# Altium footprint library ONSemi.PcbLib: 4 footprints
Each footprint in its own frame and in the unit in brackets; x right, y up, seen from the top. Pads: shape width x height; smd on the part's side, far side on the other; paste and mask are expansions set on the pad; w line width, h text height; cw(c..) or ccw(c..) is an arc to the next point about the centre after c.
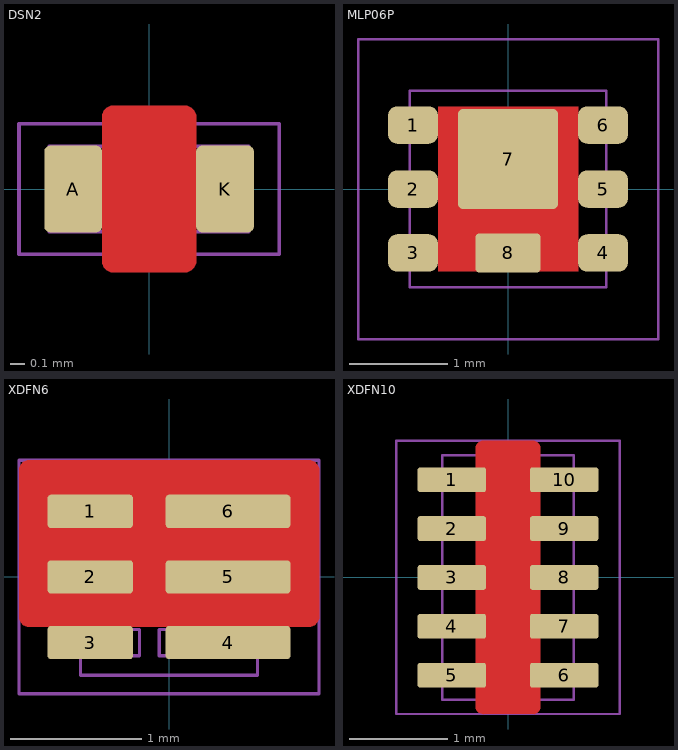
[diagram p0: the footprints below, top view; thin cyan lines are the x and y axes]

## DSN2 [mil]
height 19.68
pads (2):
  rrect20% 16x24 smd mask+2: A(-21,0) K(21,0)
Top Layer:
  pour cut-out: 13,20 13,20.6 12.54,21.7 11.7,22.54 10.6,23 10,23 -10,23 -10.6,23 -11.7,22.54 -12.54,21.7 -13,20.6 -13,20 -13,-20 -13,-20.6 -12.54,-21.7 -11.7,-22.54 -10.6,-23 -10,-23 10,-23 10.6,-23 11.7,-22.54 12.54,-21.7 13,-20.6 13,-20
Top Solder:
  rectangle: 40,-9 47,9
  region: -8,18.1 -8,14 -17,14 -17,-14 -8,-14 -8,-18.1 8,-18.1 8,-14 17,-14 17,14 8,14 8,18.1
Top Designator:
  text ".Designator" at -72.94,-7.14 h20
Top Courtyard:
  lines w1: -36,-18 36,-18 36,18 -36,18 -36,-18
Top Component Outline:
  lines w1: -27.56,-11.81 27.56,-11.81 27.56,11.81 -27.56,11.81 -27.56,-11.81
3D body: height 11.1, standoff 11, extent 15,-10 22,10
3D body: height 11.02, standoff 0, extent -27.56,-11.81 27.56,11.81

## MLP06P [mil]
height 31.5
pads (8):
  rrect50% 20x15 smd mask+2: 1(-38,25.59) 2(-38,0) 3(-38,-25.59) 4(38,-25.59) 5(38,0) 6(38,25.59)
  rrect10% 40x40 smd paste-200 mask+2: 7(0,12)
  rrect20% 25.98x15.75 smd mask+2: 8(0,-25.59)
Top Layer:
  pour cut-out: -28,33 28,33 28,-33 -28,-33
Top Paste:
  rectangle: 4,-7 19,31
  rectangle: -19,-7 -4,31
Top Solder:
  region: -35,44 -28,56 -42,56
Top Designator:
  text ".Designator" at 12.5,-127.64 h35
Top Courtyard:
  lines w1: -60,-60 -60,60 60,60 60,-60 -60,-60
Top Component Outline:
  lines w1: -39.37,-39.37 -39.37,39.37 39.37,39.37 39.37,-39.37 -39.37,-39.37
3D body: height 21.1, standoff 20.5, extent -26.94,13.02 -13,26.99
3D body: height 10, standoff 0, extent 30.37,20.59 40.37,30.59
3D body: height 10, standoff 0, extent 30.37,-5 40.37,5
3D body: height 10, standoff 0, extent 30.37,-30.59 40.37,-20.59
3D body: height 10, standoff 0, extent -40.37,20.59 -30.37,30.59
3D body: height 10, standoff 0, extent -40.37,-5 -30.37,5
3D body: height 10, standoff 0, extent -40.37,-30.59 -30.37,-20.59
3D body: height 21, standoff 0, extent -39.37,-39.37 39.37,39.37

## XDFN6 [mm]
height 0.5
pads (6):
  rrect20% 0.65x0.254 smd mask+0.051: 1(-0.6,0.5) 2(-0.6,0) 3(-0.6,-0.5)
  rrect20% 0.95x0.254 smd mask+0.051: 4(0.45,-0.5) 5(0.45,0) 6(0.45,0.5)
Top Layer:
  pour cut-out: -1.067,0.889 -1.082,0.889 -1.11,0.877 -1.131,0.856 -1.143,0.828 -1.143,0.813 -1.143,-0.302 -1.143,-0.317 -1.131,-0.345 -1.11,-0.367 -1.082,-0.378 -1.067,-0.378 1.067,-0.378 1.082,-0.378 1.11,-0.367 1.131,-0.345 1.143,-0.317 1.143,-0.302 1.143,0.813 1.143,0.828 1.131,0.856 1.11,0.877 1.082,0.889 1.067,0.889
Top Solder:
  region: -0.564,0.868 -0.386,1.172 -0.742,1.172
Top Designator:
  text ".Designator" at -1.853,-0.181 h0.51
Top Courtyard:
  lines w0.025: -1.143,-0.889 1.143,-0.889 1.143,0.889 -1.143,0.889 -1.143,-0.889
Top Component Outline:
  lines w0.025: -0.875,-0.6 -0.225,-0.6 -0.225,-0.4 -0.875,-0.4 -0.875,-0.6 ; -0.875,-0.1 -0.225,-0.1 -0.225,0.1 -0.875,0.1 -0.875,-0.1 ; -0.875,0.4 -0.225,0.4 -0.225,0.6 -0.875,0.6 -0.875,0.4 ; -0.675,-0.75 0.675,-0.75 0.675,0.75 -0.675,0.75 -0.675,-0.75 ; -0.075,-0.6 -0.075,-0.4 0.875,-0.4 0.875,-0.6 -0.075,-0.6 ; -0.075,-0.1 -0.075,0.1 0.875,0.1 0.875,-0.1 -0.075,-0.1 ; -0.075,0.4 -0.075,0.6 0.875,0.6 0.875,0.4 -0.075,0.4
3D body: height 0.45, standoff 0, extent -0.675,-0.75 0.675,0.75

## XDFN10 [mm]
height 0.5
pads (10):
  rrect20% 0.7x0.254 smd mask+0.051: 1(-0.575,1) 2(-0.575,0.5) 3(-0.575,0) 4(-0.575,-0.5) 5(-0.575,-1) 6(0.575,-1) 7(0.575,-0.5) 8(0.575,0) 9(0.575,0.5) 10(0.575,1)
Top Layer:
  pour cut-out: 0.33,1.321 0.33,1.336 0.319,1.364 0.297,1.385 0.269,1.397 0.254,1.397 -0.254,1.397 -0.269,1.397 -0.297,1.385 -0.319,1.364 -0.33,1.336 -0.33,1.321 -0.33,-1.321 -0.33,-1.336 -0.319,-1.364 -0.297,-1.385 -0.269,-1.397 -0.254,-1.397 0.254,-1.397 0.269,-1.397 0.297,-1.385 0.319,-1.364 0.33,-1.336 0.33,-1.321
Top Solder:
  region: -0.564,1.368 -0.386,1.672 -0.742,1.672
Top Designator:
  text ".Designator" at -1.853,-0.181 h0.51
Top Courtyard:
  lines w0.025: -1.143,-1.397 -1.143,1.397 1.143,1.397 1.143,-1.397 -1.143,-1.397
Top Component Outline:
  lines w0.025: -0.875,-0.1 -0.175,-0.1 -0.175,0.1 -0.875,0.1 -0.875,-0.1 ; -0.675,-1.25 0.675,-1.25 0.675,1.25 -0.675,1.25 -0.675,-1.25
3D body: height 0.45, standoff 0, extent -0.675,-1.25 0.675,1.25